# Altium integrated library AMCA31-2R450G-S1F-T3.IntLib: 1 symbol
Pins are listed as number, name and electrical type; pins without a type are passive.

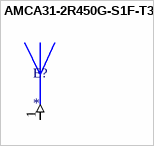
[diagram p0: symbol AMCA31-2R450G-S1F-T3]

## AMCA31-2R450G-S1F-T3
designator E?
2.4GHz Bluetooth, Wi-Fi, WLAN Chip RF Antenna 2.405GHz ~ 2.495GHz 0.5dBi Solder Surface Mount; MF: Abracon LLC; MP: AMCA31-2R450G-S1F-T3; Check_prices: https://www.snapeda.com/parts/AMCA31-2R450G-S1F-T3/Abracon+LLC/view-part/?ref=eda; Purchase-URL: https://pricing.snapeda.com/search/part/AMCA31-2R450G-S1F-T3/?ref=eda; Value: *; Availability: In Stock; Package: None; SnapEDA_Link: https://www.snapeda.com/parts/AMCA31-2R450G-S1F-T3/Abracon+LLC/view-part/?ref=snap; Price: None
footprint XDCR_AMCA31-2R450G-S1F-T3
pins: 1 (in)